# Altium schematic symbol library Pilot.SchLib: 72 symbols (part 2 of 3)
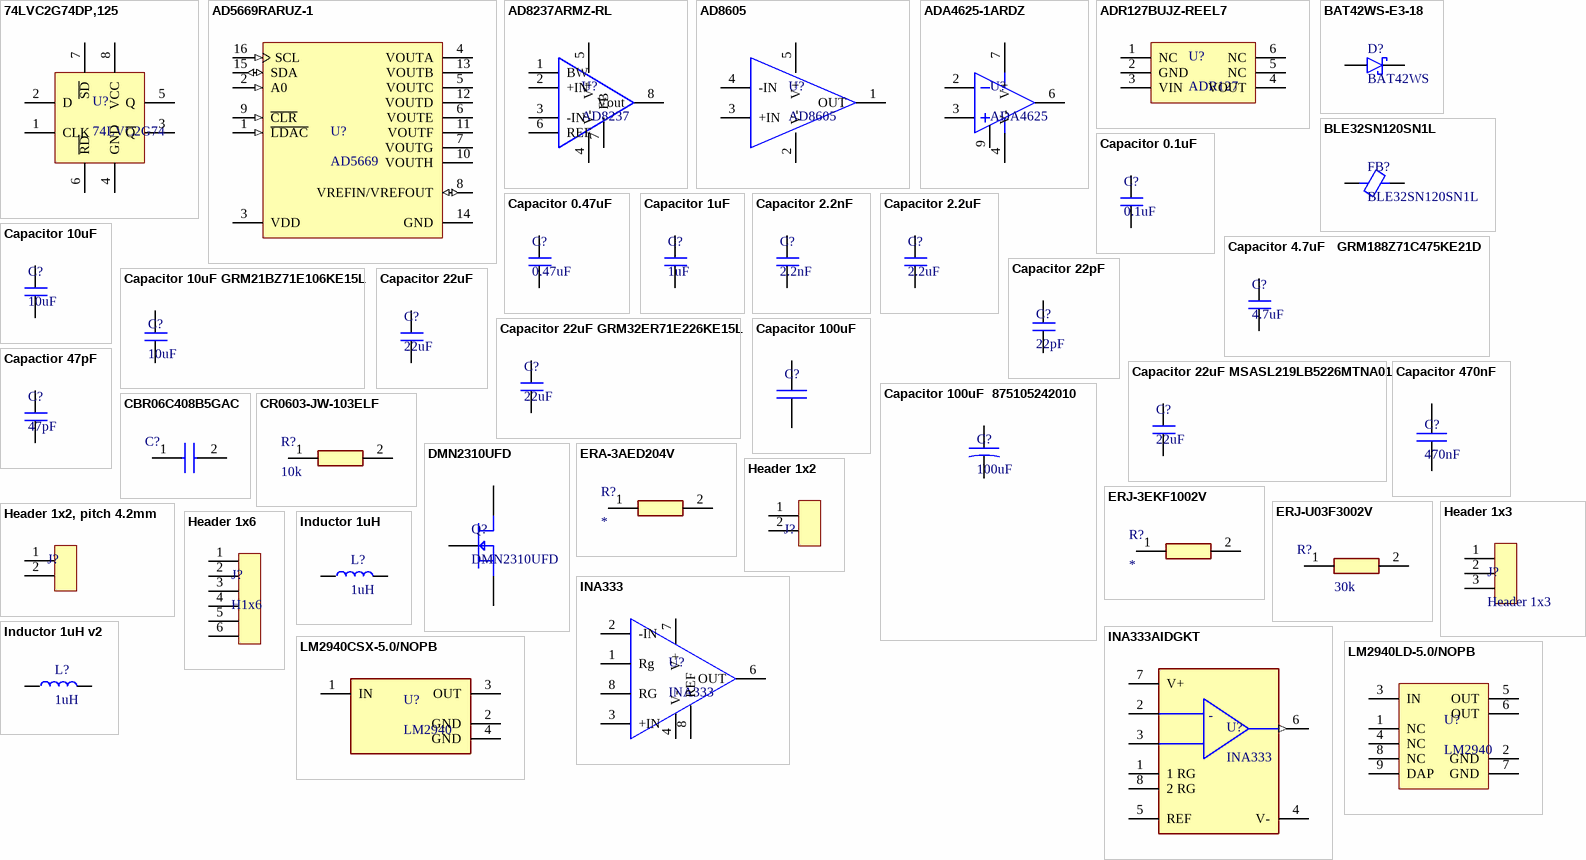
[diagram p2: symbols 74LVC2G74DP,125 to LM2940LD-5.0/NOPB]

## Header 1x6
designator J?, comment H1x6
KK 254 Wire-to-Board Header, Vertical, with Friction Lock, 6 Circuits, Tin (Sn) Plating; Manufacturer: Molex; Manufacturer Lifecycle Status: ACTIVE; Contact Resistance: 20mΩ; Current Rating: 4A; Dielectric Material: Polyamide; Gender: Male; Glow Wire Compliant: Non-compliant; Hole Diameter: 1.02mm; Insulation Resistance: 5GΩ; Max Voltage Rating (AC): 250V; Number of Circuits: 5; Number of Contacts: 6; Operating Force: 1.946N; Pitch: 2.54mm; Plating Thickness: 5.08µm; Voltage Rating: 500V; Supplier: Mouser; Supplier Part Number: 538-22-23-2061; Manufacturer Part Number: 22-27-2061; RoHS: Compliant; Category: Headers and Wire Housings; Stock: 25058; Pricing: 1=0.46, 10=0.374, 50=0.372, 100=0.344, 1000=0.291, 10000=0.262 (USD); China RoHS: Compliant; Color: White; Contact Gender: Male; Contact Material: Brass; Contact Plating: Tin; Country of Origin: TH; Depth: 5.8mm; Flammability Rating: UL94 V-0; Halogen Free: Low Halogen; Height: 12.05mm; Housing Material: Nylon; Lead Free: Lead Free; Lead Pitch: 2.54mm; Length: 15.24mm; Lifecycle Status: Production; Material: Nylon; Max Current Rating: 4A; Max Operating Temperature: 105°C; Min Operating Temperature: -40°C; Mounting Technology: Through Hole; Pins: 6; Number of Positions: 6; Number of Rows: 1; Orientation: Vertical; Packaging: Bulk; Plating: Tin; Radiation Hardening: No; REACH SVHC: Yes; Schedule B: 8536694040|8536694040|8536694040|8536694040|8536694040|8536694040|8536694040|8536694040|8536694040|8536694040|8536694040|8536694040|8536694040|8536694040|8536694040|8536694040|8536694040|8536694040|8536694040|8536694040|8536694040|8536694040|8536694040|85; Terminal Pitch: 2.54mm; Termination: Solder; Voltage Rating (AC): 250V; Voltage Rating (DC): 250V; Working Voltage: 250V; ComponentLink1URL: https://datasheet.octopart.com:443/22-27-2061-Molex-datasheet-81843831.pdf?src-supplier=Sager+Electronics; ComponentLink1Description: https://datasheet.octopart.com:443/22-27-2061-Molex-datasheet-81843831.pdf?src-supplier=Sager+Electronics; ComponentLink2URL: https://datasheet.octopart.com:443/22-27-2061-Molex-datasheet-12518272.pdf?src-supplier=Molex; ComponentLink2Description: https://datasheet.octopart.com:443/22-27-2061-Molex-datasheet-12518272.pdf?src-supplier=Molex; ComponentLink3URL: https://sigma.octopart.com:443/10979409/technical_drawing/Molex-22-27-2061.pdf?src-supplier=Molex; ComponentLink3Description: https://sigma.octopart.com:443/10979409/technical_drawing/Molex-22-27-2061.pdf?src-supplier=Molex; ComponentLink4URL: https://datasheet.octopart.com:443/022272061-Molex-datasheet-5315839.pdf?src-supplier=element14+APAC; ComponentLink4Description: https://datasheet.octopart.com:443/022272061-Molex-datasheet-5315839.pdf?src-supplier=element14+APAC; ComponentLink5URL: https://datasheet.octopart.com:443/22-27-2061-Molex-datasheet-10210293.pdf?src-supplier=element14+APAC; ComponentLink5Description: https://datasheet.octopart.com:443/22-27-2061-Molex-datasheet-10210293.pdf?src-supplier=element14+APAC; ComponentLink6URL: https://datasheet.octopart.com:443/22-27-2061.-Molex-datasheet-77557766.pdf?src-supplier=element14+APAC; ComponentLink6Description: https://datasheet.octopart.com:443/22-27-2061.-Molex-datasheet-77557766.pdf?src-supplier=element14+APAC; ComponentLink7URL: https://datasheet.octopart.com:443/22-27-2061.-Molex-datasheet-66635068.pdf?src-supplier=element14+APAC; ComponentLink7Description: https://datasheet.octopart.com:443/22-27-2061.-Molex-datasheet-66635068.pdf?src-supplier=element14+APAC; ComponentLink8URL: https://datasheet.octopart.com:443/22-27-2061-Molex-datasheet-154747150.pdf?src-supplier=Master+Electronics; ComponentLink8Description: https://datasheet.octopart.com:443/22-27-2061-Molex-datasheet-154747150.pdf?src-supplier=Master+Electronics; ComponentLink9URL: https://datasheet.octopart.com:443/22-27-2061-Molex-datasheet-101581851.pdf?src-supplier=Farnell; ComponentLink9Description: https://datasheet.octopart.com:443/22-27-2061-Molex-datasheet-101581851.pdf?src-supplier=Farnell; ComponentLink10URL: https://datasheet.octopart.com:443/22-27-2061-Molex-datasheet-21772754.pdf?src-supplier=Farnell; ComponentLink10Description: https://datasheet.octopart.com:443/22-27-2061-Molex-datasheet-21772754.pdf?src-supplier=Farnell; ComponentLink11URL: https://datasheet.octopart.com:443/22-27-2061-Molex-datasheet-604178.pdf?src-supplier=Farnell; ComponentLink11Description: https://datasheet.octopart.com:443/22-27-2061-Molex-datasheet-604178.pdf?src-supplier=Farnell; ComponentLink12URL: https://datasheet.octopart.com:443/22-27-2061-Molex-datasheet-506551.pdf?src-supplier=element14; ComponentLink12Description: https://datasheet.octopart.com:443/22-27-2061-Molex-datasheet-506551.pdf?src-supplier=element14; ComponentLink13URL: https://datasheet.octopart.com:443/22-27-2061-Molex-datasheet-140181062.pdf?src-supplier=RS+(Formerly+Allied+Electronics); ComponentLink13Description: https://datasheet.octopart.com:443/22-27-2061-Molex-datasheet-140181062.pdf?src-supplier=RS+(Formerly+Allied+Electronics); ComponentLink14URL: https://datasheet.octopart.com:443/22-27-2061-Molex-datasheet-120145355.pdf?src-supplier=RS+(Formerly+Allied+Electronics); ComponentLink14Description: https://datasheet.octopart.com:443/22-27-2061-Molex-datasheet-120145355.pdf?src-supplier=RS+(Formerly+Allied+Electronics); ComponentLink15URL: https://datasheet.octopart.com:443/22-27-2061-Molex-datasheet-62103482.pdf?src-supplier=Electro+Sonic; ComponentLink15Description: https://datasheet.octopart.com:443/22-27-2061-Molex-datasheet-62103482.pdf?src-supplier=Electro+Sonic; ComponentLink16URL: https://datasheet.octopart.com:443/22-27-2061-Molex-datasheet-37168871.pdf?src-supplier=Electro+Sonic; ComponentLink16Description: https://datasheet.octopart.com:443/22-27-2061-Molex-datasheet-37168871.pdf?src-supplier=Electro+Sonic; ComponentLink17URL: https://datasheet.octopart.com:443/22-27-2061-Molex-datasheet-23709053.pdf?src-supplier=Electro+Sonic; ComponentLink17Description: https://datasheet.octopart.com:443/22-27-2061-Molex-datasheet-23709053.pdf?src-supplier=Electro+Sonic; ComponentLink18URL: https://datasheet.octopart.com:443/22272061-Molex-datasheet-137316104.pdf?src-supplier=Future+Electronics; ComponentLink18Description: https://datasheet.octopart.com:443/22272061-Molex-datasheet-137316104.pdf?src-supplier=Future+Electronics; ComponentLink19URL: https://datasheet.octopart.com:443/22-27-2061-Molex-datasheet-34222975.pdf?src-supplier=Newark; ComponentLink19Description: https://datasheet.octopart.com:443/22-27-2061-Molex-datasheet-34222975.pdf?src-supplier=Newark; ComponentLink20URL: https://datasheet.octopart.com:443/22-27-2061-Molex-datasheet-33002333.pdf?src-supplier=Newark; ComponentLink20Description: https://datasheet.octopart.com:443/22-27-2061-Molex-datasheet-33002333.pdf?src-supplier=Newark; ComponentLink21URL: https://datasheet.octopart.com:443/22-27-2061-Molex-datasheet-21206944.pdf?src-supplier=Newark; ComponentLink21Description: https://datasheet.octopart.com:443/22-27-2061-Molex-datasheet-21206944.pdf?src-supplier=Newark; ComponentLink22URL: https://datasheet.octopart.com:443/22-27-2061-Molex-datasheet-151821780.pdf?src-supplier=Toby+Electronics; ComponentLink22Description: https://datasheet.octopart.com:443/22-27-2061-Molex-datasheet-151821780.pdf?src-supplier=Toby+Electronics; ComponentLink23URL: https://datasheet.octopart.com:443/22-27-2061-Molex-datasheet-135930.pdf?src-supplier=DigiKey; ComponentLink23Description: https://datasheet.octopart.com:443/22-27-2061-Molex-datasheet-135930.pdf?src-supplier=DigiKey; ComponentLink24URL: https://datasheet.octopart.com:443/22-27-2061-Molex-datasheet-7084865.pdf?src-supplier=Jameco; ComponentLink24Description: https://datasheet.octopart.com:443/22-27-2061-Molex-datasheet-7084865.pdf?src-supplier=Jameco; ComponentLink25URL: https://datasheet.octopart.com:443/22-27-2061-Molex-datasheet-17586671.pdf?src-supplier=TME; ComponentLink25Description: https://datasheet.octopart.com:443/22-27-2061-Molex-datasheet-17586671.pdf?src-supplier=TME; ComponentLink26URL: http://sigma.octopart.com:80/16297739/rohs_statement/Molex-22-27-2061.pdf?src-supplier=Compliance+Statements; ComponentLink26Description: http://sigma.octopart.com:80/16297739/rohs_statement/Molex-22-27-2061.pdf?src-supplier=Compliance+Statements; ComponentLink27URL: http://sigma.octopart.com:80/conflict_mineral_statement/Molex-company-72.pdf?src-supplier=Compliance+Statements; ComponentLink27Description: http://sigma.octopart.com:80/conflict_mineral_statement/Molex-company-72.pdf?src-supplier=Compliance+Statements; ComponentLink28URL: http://sigma.octopart.com:80/reach_statement/Molex-company-74.pdf?src-supplier=Compliance+Statements; ComponentLink28Description: http://sigma.octopart.com:80/reach_statement/Molex-company-74.pdf?src-supplier=Compliance+Statements; ComponentLink29URL: http://sigma.octopart.com:80/rohs_statement/Molex-company-73.pdf?src-supplier=Compliance+Statements; ComponentLink29Description: http://sigma.octopart.com:80/rohs_statement/Molex-company-73.pdf?src-supplier=Compliance+Statements; Supplier 1: Mouser; Supplier Part Number 1: 538-22-27-2061
footprint HEADER 1X6
pins: 1, 2, 3, 4, 5, 6

## INA333
designator U?
pins: 1 Rg, 2 -IN, 3 +IN, 4 V-, 6 OUT, 7 V+, 8 REF, 8 RG

## INA333AIDGKT
designator U?, comment INA333
IC INST AMP 1 CIRCUIT 8VSSOP Instrumentation Amplifier 1 Circuit Rail-to-Rail 8-VSSOP; Manufacturer: Texas Instruments; Manufacturer Part Number: INA333AIDGKT; Manufacturer Lifecycle Status: ACTIVE; -3db Bandwidth: 150kHz; Common Mode Rejection Ratio: 100dB; Input Bias Current: 70pA; Input Offset Voltage (Vos): 25µV; Max Dual Supply Voltage: 2.75V; Max Junction Temperature (Tj): 150°C; Max Supply Current: 75µA; Max Supply Voltage: 5.5V; Min Dual Supply Voltage: 900mV; Min Supply Voltage: 1.8V; Nominal Supply Current: 50µA; Number of Amplifiers: 1; Number of Elements: 3; Output Current per Channel: 40mA; Power Supply Rejection Ratio (PSRR): 120dB; Value: 100GΩ; Slew Rate: 0.16V/µs; Voltage Gain: 60dB; Supplier: Mouser; Supplier Part Number: 595-INA333AIDGKT; RoHS: Compliant; Category: Amplifiers - Op Amps, Buffer, Instrumentation; Stock: 4360; Ambient Temperature Range High: 125°C; Bandwidth: 150kHz; Case/Package: VSSOP; Gain Bandwidth Product: 150kHz; Height: 0m; Lead Free: Lead Free; Length: 3mm; Lifecycle Status: Production; Max Operating Temperature: 125°C; Min Operating Temperature: -40°C; Number of Channels: 1; Number of Circuits: 1; Pins: 8; Operating Supply Current: 50µA; Quiescent Current: 50µA; Radiation Hardening: No; REACH SVHC: No; Schedule B: 8542330000, 8542330000|8542330000|8542330000|8542330000|8542330000|8542330000|8542330000|8542330000|8542330000|8542330000|8542330000|8542330000|8542330000|8542330000|8542330000|8542330000|8542330000|8542330000|8542330000|8542330000|8542330000|8542330000|8542330000|85; Thickness: 970µm; Weight: 26.506804mg; Width: 3mm; ComponentLink1URL: https://sigma.octopart.com:443/178522223/technical_drawing/Texas-Instruments-INA333AIDGKT.pdf?src-supplier=Texas+Instruments; ComponentLink1Description: https://sigma.octopart.com:443/178522223/technical_drawing/Texas-Instruments-INA333AIDGKT.pdf?src-supplier=Texas+Instruments; ComponentLink2URL: https://octopart.com:443/opatz8j6/c1?t=V-fXB-rW8jv6fZO42Xyeii-VbSduNs_sypYrbIAapb8q-gef3LibjYtXIxlRxKElxMoNQnTuiMj8fJDwQC7p1wsXU82Nf5KzMMEUlZU6NM7WLFRVjXH6z6_5ibc0BewWLNUAVqlUzV9zOoWoa8sKVJurnvTC26LvhOb60JTxJWGz_lMtxfG2gwWfzn0OBkEnAwIBI0ugQCUIg70evWR0bIK6L-5NECTMU-gf3l-vwrJZ1XbBUM96S_Td2M5M8hc4UVOubiMbDDYiWeG3BE1nzII6D67RVcdz5ib3izF7gT1Fzk9wewYzsqh4K7kTAYR21MEJOv9DjSf59eS-SZmh4NGmW3yyPbkOF_cwYzkKBAViD-S_Foru0ymOmvmM4NJ_caOk&src-supplier=Texas+Instruments; ComponentLink2Description: https://octopart.com:443/opatz8j6/c1?t=V-fXB-rW8jv6fZO42Xyeii-VbSduNs_sypYrbIAapb8q-gef3LibjYtXIxlRxKElxMoNQnTuiMj8fJDwQC7p1wsXU82Nf5KzMMEUlZU6NM7WLFRVjXH6z6_5ibc0BewWLNUAVqlUzV9zOoWoa8sKVJurnvTC26LvhOb60JTxJWGz_lMtxfG2gwWfzn0OBkEnAwIBI0ugQCUIg70evWR0bIK6L-5NECTMU-gf3l-vwrJZ1XbBUM96S_Td2M5M8hc4UVOubiMbDDYiWeG3BE1nzII6D67RVcdz5ib3izF7gT1Fzk9wewYzsqh4K7kTAYR21MEJOv9DjSf59eS-SZmh4NGmW3yyPbkOF_cwYzkKBAViD-S_Foru0ymOmvmM4NJ_caOk&src-supplier=Texas+Instruments; ComponentLink3URL: https://datasheet.octopart.com:443/INA333AIDGKT-Texas-Instruments-datasheet-10254260.pdf?src-supplier=Texas+Instruments; ComponentLink3Description: https://datasheet.octopart.com:443/INA333AIDGKT-Texas-Instruments-datasheet-10254260.pdf?src-supplier=Texas+Instruments; ComponentLink4URL: https://sigma.octopart.com:443/49250154/technical_drawing/Texas-Instruments-INA333AIDGKT.pdf?src-supplier=Texas+Instruments; ComponentLink4Description: https://sigma.octopart.com:443/49250154/technical_drawing/Texas-Instruments-INA333AIDGKT.pdf?src-supplier=Texas+Instruments; ComponentLink5URL: https://datasheet.octopart.com:443/INA333AIDGKT-Texas-Instruments-datasheet-33010170.pdf?src-supplier=Newark; ComponentLink5Description: https://datasheet.octopart.com:443/INA333AIDGKT-Texas-Instruments-datasheet-33010170.pdf?src-supplier=Newark; ComponentLink6URL: https://datasheet.octopart.com:443/INA333AIDGKT-Texas-Instruments-datasheet-21221252.pdf?src-supplier=Newark; ComponentLink6Description: https://datasheet.octopart.com:443/INA333AIDGKT-Texas-Instruments-datasheet-21221252.pdf?src-supplier=Newark; ComponentLink7URL: https://datasheet.octopart.com:443/INA333AIDGKT-Texas-Instruments-datasheet-102489501.pdf?src-supplier=Upverter; ComponentLink7Description: https://datasheet.octopart.com:443/INA333AIDGKT-Texas-Instruments-datasheet-102489501.pdf?src-supplier=Upverter; ComponentLink8URL: https://datasheet.octopart.com:443/INA333AIDGKT-Texas-Instruments-datasheet-13550866.pdf?src-supplier=Upverter; ComponentLink8Description: https://datasheet.octopart.com:443/INA333AIDGKT-Texas-Instruments-datasheet-13550866.pdf?src-supplier=Upverter; ComponentLink9URL: https://datasheet.octopart.com:443/INA333AIDGKT-Texas-Instruments-datasheet-14137325.pdf?src-supplier=iiiC; ComponentLink9Description: https://datasheet.octopart.com:443/INA333AIDGKT-Texas-Instruments-datasheet-14137325.pdf?src-supplier=iiiC; ComponentLink10URL: https://datasheet.octopart.com:443/INA333AIDGKT-Texas-Instruments-datasheet-11537799.pdf?src-supplier=Farnell; ComponentLink10Description: https://datasheet.octopart.com:443/INA333AIDGKT-Texas-Instruments-datasheet-11537799.pdf?src-supplier=Farnell; ComponentLink11URL: https://datasheet.octopart.com:443/INA333AIDGKT-Texas-Instruments-datasheet-10888318.pdf?src-supplier=Farnell; ComponentLink11Description: https://datasheet.octopart.com:443/INA333AIDGKT-Texas-Instruments-datasheet-10888318.pdf?src-supplier=Farnell; ComponentLink12URL: https://datasheet.octopart.com:443/INA333AIDGKT-Texas-Instruments-datasheet-5396508.pdf?src-supplier=Farnell; ComponentLink12Description: https://datasheet.octopart.com:443/INA333AIDGKT-Texas-Instruments-datasheet-5396508.pdf?src-supplier=Farnell; ComponentLink13URL: http://sigma.octopart.com:80/reach_statement/Texas-Instruments-company-64.pdf?src-supplier=Compliance+Statements; ComponentLink13Description: http://sigma.octopart.com:80/reach_statement/Texas-Instruments-company-64.pdf?src-supplier=Compliance+Statements; ComponentLink14URL: http://sigma.octopart.com:80/conflict_mineral_statement/Texas-Instruments-company-63.pdf?src-supplier=Compliance+Statements; ComponentLink14Description: http://sigma.octopart.com:80/conflict_mineral_statement/Texas-Instruments-company-63.pdf?src-supplier=Compliance+Statements; Supplier 1: Mouser; Supplier Part Number 1: 595-INA333AIDGKT
footprint VSSOP-8
pins: 1 1 RG, 2 VIN-, 3 VIN+, 4 V- (power), 5 REF, 6 VOUT (out), 7 V+ (power), 8 2 RG
text: -

## Inductor 1uH
designator L?, comment 1uH
74438356010 Fixed Ind 1UH 7.2A 15 Mohm SMD; Manufacturer: Wurth Electronics; Core Material: Metal,Composite; Saturation Current: 9A; Shielding: Shielded; DC Resistance (DCR): 15mR; Self Resonant Frequency: 55MHz; Test Frequency: 100kHz; Tolerance: 20%; Supplier: Mouser; Supplier Part Number: 710-74438356010; Manufacturer Part Number: 74438356010; RoHS: Yes; Category: Fixed Inductors; Stock: 7017; Pricing: 1=1.94, 10=1.9, 50=1.82, 100=1.68, 1000=1.12, 10000=1.12 (USD); Mounting Technology: Surface Mount; Case/Package: SMD/SMT; Pins: 2; Min Operating Temperature: -40°C; Max Operating Temperature: 125°C; Packaging: Cut Tape; Value: 1uH; Current Rating: 7.2A; RMS Current (Irms): 7.2A; Inductance Tolerance: 20%; Series: WE-MAPI; Length: 0.161inch; Width: 0.161inch; Height - Seated (Max): 0.083inch; RoHS Compliant: Yes; Reach SVHC Compliant: Unknown; ComponentLink1URL: http://www.farnell.com/datasheets/2039949.pdf?src-supplier=Farnell; ComponentLink1Description: http://www.farnell.com/datasheets/2039949.pdf?src-supplier=Farnell; ComponentLink2URL: https://www.mouser.com/ds/2/445/74438356010-777437.pdf?src-supplier=Mouser; ComponentLink2Description: https://www.mouser.com/ds/2/445/74438356010-777437.pdf?src-supplier=Mouser; ComponentLink3URL: http://www.farnell.com/datasheets/2039949.pdf?src-supplier=Element14; ComponentLink3Description: http://www.farnell.com/datasheets/2039949.pdf?src-supplier=Element14; ComponentLink4URL: https://katalog.we-online.de/pbs/datasheet/74438356010.pdf?src-supplier=Digikey; ComponentLink4Description: https://katalog.we-online.de/pbs/datasheet/74438356010.pdf?src-supplier=Digikey; ComponentLink5URL: http://katalog.we-online.de/pbs/datasheet/74438356010.pdf?src-supplier=Digikey; ComponentLink5Description: http://katalog.we-online.de/pbs/datasheet/74438356010.pdf?src-supplier=Digikey; ComponentLink6URL: http://www.farnell.com/datasheets/2039949.pdf?src-supplier=Newark; ComponentLink6Description: http://www.farnell.com/datasheets/2039949.pdf?src-supplier=Newark; Supplier 1: Mouser; Supplier Part Number 1: 710-74438356010
footprint IND4020 (Chip Inductor, 2-Leads, Body 4.10x4.10mm, IPC Low Density)
pins: 1, 2

## Inductor 1uH v2
designator L?, comment 1uH
Power Inductor, Aec-Q200, 1Uh, 3.9A Rohs Compliant: Yes |Wurth Elektronik 74404052010; DC Resistance (DCR): 19.8mΩ; Value: 1µH; Saturation Current: 5.5A; Self Resonant Frequency: 145MHz; Shielding: Shielded; Test Frequency: 100kHz; Tolerance: 30%; Supplier: Mouser; Supplier Part Number: 710-74404052010; Manufacturer: Wurth Elektronik; Manufacturer Part Number: 74404052010; RoHS: Compliant; Category: Fixed Inductors; Stock: 975; Pricing: 1=0.77, 10=0.713, 50=0.708, 100=0.647, 1000=0.631, 10000=0.572 (USD); Ambient Temperature Range High: 85°C; Ambient Temperature Range Low: -40°C; Case/Package: Nonstandard; Composition: Wirewound; Current Rating: 3.9A; Height: 2mm; Height - Seated (Max): 2.0066mm; Length: 5mm; Max Operating Temperature: 125°C; Min Operating Temperature: -40°C; Mounting Technology: Surface Mount; Packaging: Tape & Reel (TR); Width: 5mm; ComponentLink1URL: https://datasheet.octopart.com:443/74404052010-Wurth-Elektronik-datasheet-166323310.pdf?src-supplier=Newark; ComponentLink1Description: https://datasheet.octopart.com:443/74404052010-Wurth-Elektronik-datasheet-166323310.pdf?src-supplier=Newark
footprint 5x5mm
pins: 1, 2

## LM2940CSX-5.0/NOPB
designator U?, comment LM2940
Low Drop Out (LDO) Regulator Position 5 Volt 1A 4-Pin(3+Tab) TO-263; Manufacturer: TI National Semiconductor; Manufacturer Part Number: LM2940CSX-5.0/NOPB; Supplier: Mouser; Supplier Part Number: 926-LM2940CSX5.0NOPB; RoHS: Yes; Category: Voltage Regulators - Linear; Stock: 1487; ComponentLink1URL: https://datasheet.ciiva.com/15111/getdatasheetpartid-82376-15111464.pdf?src-supplier=Verical; ComponentLink1Description: https://datasheet.ciiva.com/15111/getdatasheetpartid-82376-15111464.pdf?src-supplier=Verical; ComponentLink2URL: https://datasheet.ciiva.com/34302/1262619-34302128.pdf?src-supplier=Jameco; ComponentLink2Description: https://datasheet.ciiva.com/34302/1262619-34302128.pdf?src-supplier=Jameco; ComponentLink3URL: https://datasheet.ciiva.com/8042/1520147-8042329.pdf?src-supplier=Element14; ComponentLink3Description: https://datasheet.ciiva.com/8042/1520147-8042329.pdf?src-supplier=Element14
footprint D2PAK-3 (TO-263-3)
pins: 1 IN (power), 2 GND (power), 3 OUT (power), 4 GND (power)

## LM2940LD-5.0/NOPB
designator U?, comment LM2940
1-A, 26-V, high-PSRR, low-dropout voltage regulator 8-WSON -40 to 125; Manufacturer: TI National Semiconductor; Manufacturer Part Number: LM2940LD-5.0/NOPB; Supplier: Mouser; Supplier Part Number: 926-LM2940LD50NOPB; RoHS: Yes; Category: Voltage Regulators - Linear; Stock: 1797; ComponentLink1URL: https://datasheet.ciiva.com/3223/lm2940c-3223621.pdf?src-supplier=Avnet; ComponentLink1Description: https://datasheet.ciiva.com/3223/lm2940c-3223621.pdf?src-supplier=Avnet; ComponentLink2URL: https://datasheet.ciiva.com/6589/lm2940-n-6589582.pdf?src-supplier=Digikey; ComponentLink2Description: https://datasheet.ciiva.com/6589/lm2940-n-6589582.pdf?src-supplier=Digikey; ComponentLink3URL: https://datasheet.ciiva.com/6589/lm2940-n-6589583.pdf?src-supplier=Digikey; ComponentLink3Description: https://datasheet.ciiva.com/6589/lm2940-n-6589583.pdf?src-supplier=Digikey
footprint WSON-8
pins: 1 NC, 2 GND (power), 3 IN (power), 4 NC, 5 OUT (power), 6 OUT (power), 7 GND (power), 8 NC, 9 DAP (power)

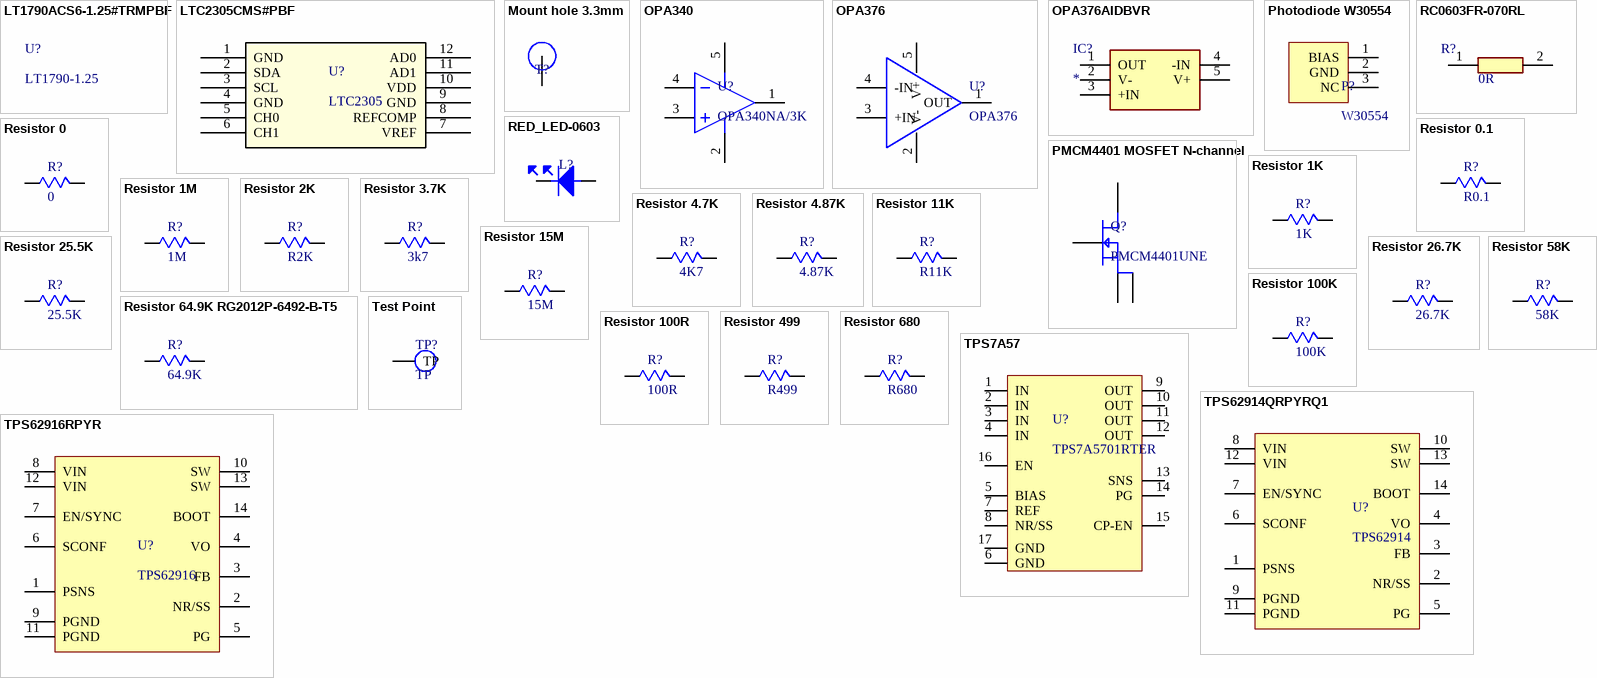
[diagram p1: symbols LT1790ACS6-1.25#TRMPBF to TPS62916RPYR]

## LT1790ACS6-1.25#TRMPBF
designator U?, comment LT1790-1.25
LT1790 - Micropower SOT-23 Low Dropout Reference Family; Manufacturer: Analog Devices / Linear Technology; Manufacturer Part Number: LT1790ACS6-1.25#TRMPBF; Supplier: Mouser; Supplier Part Number: 584-1790ACS61.25TMPF; RoHS: Yes; Category: Voltage References; Stock: 1065; ComponentLink1URL: https://datasheet.ciiva.com/5781/1599502-5781690.pdf?src-supplier=Farnell; ComponentLink1Description: https://datasheet.ciiva.com/5781/1599502-5781690.pdf?src-supplier=Farnell; ComponentLink2URL: https://datasheet.ciiva.com/6594/2433-6594157.pdf?src-supplier=Digikey; ComponentLink2Description: https://datasheet.ciiva.com/6594/2433-6594157.pdf?src-supplier=Digikey; ComponentLink3URL: https://datasheet.ciiva.com/6594/2433-6594159.pdf?src-supplier=Digikey; ComponentLink3Description: https://datasheet.ciiva.com/6594/2433-6594159.pdf?src-supplier=Digikey; ComponentLink4URL: https://datasheet.ciiva.com/8027/1599502-8027691.pdf?src-supplier=Element14; ComponentLink4Description: https://datasheet.ciiva.com/8027/1599502-8027691.pdf?src-supplier=Element14; ComponentLink5URL: https://datasheet.ciiva.com/1173/1599502-1173899.pdf?src-supplier=Element14; ComponentLink5Description: https://datasheet.ciiva.com/1173/1599502-1173899.pdf?src-supplier=Element14; ComponentLink6URL: https://datasheet.ciiva.com/48696/001256455-da-01-en-ic-v-lt1790acs6-1-25-trmpbf-sot-23-6-ltc-48696453.pdf?src-supplier=Conrad; ComponentLink6Description: https://datasheet.ciiva.com/48696/001256455-da-01-en-ic-v-lt1790acs6-1-25-trmpbf-sot-23-6-ltc-48696453.pdf?src-supplier=Conrad

## LTC2305CMS#PBF
designator U?, comment LTC2305
2-Channel Single ADC SAR 14ksps 12-bit Serial Automotive 12-Pin MSOP Tube; Manufacturer: Analog Devices / Linear Technology; Manufacturer Part Number: LTC2305CMS#PBF; Supplier: Mouser; Supplier Part Number: 584-LTC2305CMS#PBF; RoHS: Yes; Category: Analog to Digital Converters (ADCs); Stock: 78; ComponentLink1URL: https://datasheet.ciiva.com/4031/46671058s8217761n7433-4031713.pdf?src-supplier=Arrow+Electronics; ComponentLink1Description: https://datasheet.ciiva.com/4031/46671058s8217761n7433-4031713.pdf?src-supplier=Arrow+Electronics; ComponentLink2URL: https://datasheet.ciiva.com/22635/1599670-22635120.pdf?src-supplier=Farnell; ComponentLink2Description: https://datasheet.ciiva.com/22635/1599670-22635120.pdf?src-supplier=Farnell; ComponentLink3URL: https://datasheet.ciiva.com/5784/1599670-5784538.pdf?src-supplier=Farnell; ComponentLink3Description: https://datasheet.ciiva.com/5784/1599670-5784538.pdf?src-supplier=Farnell; ComponentLink4URL: https://datasheet.ciiva.com/6662/26767-6662076.pdf?src-supplier=Digikey; ComponentLink4Description: https://datasheet.ciiva.com/6662/26767-6662076.pdf?src-supplier=Digikey
footprint MSOP12 (MSOP, 12-Leads, Body 4.04x3.00mm, Pitch 0.65mm, IPC Medium Density)
pins: 1 GND, 2 SDA, 3 SCL, 4 GND (power), 5 CH0, 6 CH1, 7 VREF, 8 REFCOMP, 9 GND (power), 10 VDD (power), 11 AD1, 12 AD0

## Mount hole 3.3mm
designator T?, comment TP  (value not drawn)
footprint Hole 3.3mm
pins: 1

## OPA340
designator U?, comment OPA340NA/3K
Operational Amplifier Single General Purpose Rail to Rail Input 5.5V 5-Pin SOT-23 Tape and Reel; Manufacturer: Texas Instruments; Supplier: Mouser; Supplier Part Number: 595-OPA340NA/3K; Manufacturer Part Number: OPA340NA/3K; RoHS: Yes; Category: Amplifiers - Op Amps, Buffer, Instrumentation; Stock: 33077; Length: 2.9mm; Width: 1.6mm; Height: 1.45mm; Thickness: 1.2mm; Lead Free: 5697LeadFree; ComponentLink1URL: https://datasheet.ciiva.com/4755/sbos073b-93957-4755984.pdf?src-supplier=Mouser; ComponentLink1Description: https://datasheet.ciiva.com/4755/sbos073b-93957-4755984.pdf?src-supplier=Mouser; ComponentLink2URL: https://datasheet.ciiva.com/27052/1488520-27052284.pdf?src-supplier=Jameco; ComponentLink2Description: https://datasheet.ciiva.com/27052/1488520-27052284.pdf?src-supplier=Jameco; ComponentLink3URL: https://datasheet.ciiva.com/49118/1861007-49118271.pdf?src-supplier=Element14; ComponentLink3Description: https://datasheet.ciiva.com/49118/1861007-49118271.pdf?src-supplier=Element14; ComponentLink4URL: https://datasheet.ciiva.com/1813/opa2340-1813818.pdf?src-supplier=Digikey; ComponentLink4Description: https://datasheet.ciiva.com/1813/opa2340-1813818.pdf?src-supplier=Digikey; ComponentLink5URL: https://datasheet.ciiva.com/1813/opa2340-1813819.pdf?src-supplier=Digikey; ComponentLink5Description: https://datasheet.ciiva.com/1813/opa2340-1813819.pdf?src-supplier=Digikey; ComponentLink6URL: https://datasheet.ciiva.com/1813/opa2340-1813820.pdf?src-supplier=Digikey; ComponentLink6Description: https://datasheet.ciiva.com/1813/opa2340-1813820.pdf?src-supplier=Digikey; ComponentLink7URL: https://datasheet.ciiva.com/2974/sbos073b-2974003.pdf?src-supplier=Avnet; ComponentLink7Description: https://datasheet.ciiva.com/2974/sbos073b-2974003.pdf?src-supplier=Avnet; Supplier 1: Mouser; Supplier Part Number 1: 595-OPA340NA/3K
footprint SOT-23
pins: 1 OUT, 2 V- (power), 3 IN+, 4 IN-, 5 V+ (power)

## OPA376
designator U?
Automotive Precision, Low Noise, Low Iq Operational Amplifier 5-SOT-23 -40 to 125; Manufacturer: Texas Instruments; Manufacturer Part Number: OPA376AQDBVRQ1; Supplier: Mouser; Supplier Part Number: 595-OPA376AQDBVRQ1; RoHS: Yes; Category: Amplifiers - Op Amps, Buffer, Instrumentation; Stock: 771; Pricing: 1=2.02, 10=1.49, 50=1.36, 100=1.22, 1000=1.07, 10000=0.981 (USD); Length: 2.9mm; Width: 1.6mm; Height: 1.45mm; Thickness: 1.2mm; Lead Free: 5697LeadFree; ComponentLink1URL: https://datasheet.ciiva.com/14456/sbos549-14456362.pdf?src-supplier=Avnet; ComponentLink1Description: https://datasheet.ciiva.com/14456/sbos549-14456362.pdf?src-supplier=Avnet; ComponentLink2URL: https://datasheet.ciiva.com/1813/opa376-q1-1813824.pdf?src-supplier=Digikey; ComponentLink2Description: https://datasheet.ciiva.com/1813/opa376-q1-1813824.pdf?src-supplier=Digikey
footprint SOT-23-5 (SOT23, 5-Leads, Body 2.00x2.10mm, Pitch 0.65mm, IPC Medium Density)
pins: 1 OUT, 2 V-, 3 +IN, 4 -IN, 5 V+

## OPA376AIDBVR
designator IC?
Integrated Circuit; Manufacturer_Name: Texas Instruments; Manufacturer_Part_Number: OPA376AIDBVR; Datasheet Link: http://www.ti.com/lit/gpn/OPA376; Height: 1.45mm; Mouser Part Number: 595-OPA376AIDBVR; Mouser Price/Stock: https://www.mouser.co.uk/ProductDetail/Texas-Instruments/OPA376AIDBVR?qs=xL7PkI2RoJ57GVtJklM7uw%3D%3D; Arrow Part Number: OPA376AIDBVR; Arrow Price/Stock: https://www.arrow.com/en/products/opa376aidbvr/texas-instruments?utm_currency=USD&region=nac
footprint SOT95P280X145-5N
pins: 1 OUT, 2 V-, 3 +IN, 4 -IN, 5 V+

## Photodiode W30554
designator P?, comment W30554
footprint Model 2
pins: 1 BIAS, 2 GND, 3 NC

## PMCM4401 MOSFET N-channel
designator Q?, comment PMCM4401UNE
Supplier: Mouser; Supplier Part Number: 771-PMCM4401UNEZ
footprint WLCSP4_ (BGA, 4-Leads, Body 0.78x0.78mmx0.35mm, Pitch 0.40mm)
pins: A1 G, A2 S, B1 D, B2 S

## RC0603FR-070RL
designator R?  value 0R  (hidden comment: *)
Resistor; Manufacturer_Name: Yageo Group; Manufacturer_Part_Number: RC0603FR-070RL; Datasheet Link: http://www.yageo.com/documents/recent/PYu-RC0603_51_RoHS_L_v5.pdf; Height: 0.55mm; Mouser Part Number: 603-RC0603FR-070RL; Mouser Price/Stock: https://www.mouser.co.uk/ProductDetail/YAGEO/RC0603FR-070RL?qs=0yPvnVz5%2FmpDQv43TwvCfw%3D%3D; Arrow Part Number: RC0603FR-070RL; Arrow Price/Stock: https://www.arrow.com/en/products/rc0603fr-070rl/yageo?region=nac
footprint RESC1608X55N (Footprint not found)
pins: 1, 2

## RED_LED-0603
designator L?, comment RED-LED  (value not drawn)
LED Low-Power Uni-Color Red 630nm 2V 2-Pin Chip 0603(1608Metric) T/R; Manufacturer: Wurth Elektronik; Manufacturer Part Number: 150060RS75000; Dominant Wavelength: 625nm; Forward Current: 100mA; Lens Style: Clear, Rectangular; Luminous Intensity: 250mcd; Max Junction Temperature (Tj): 95°C; Max Reverse Voltage (DC): 5V; Power Dissipation: 72mW; Test Current: 20mA; Viewing Angle: 140°; Supplier: Mouser; Supplier Part Number: 710-150060RS75000; RoHS: Compliant; Category: LEDs; Stock: 117752; Pricing: 1=0.16, 10=0.151, 50=0.142, 100=0.122, 1000=0.116, 10000=0.116 (USD); Case/Package: 0603; Case Code (Imperial): 0603; Case Code (Metric): 1608; Color: Red; Forward Voltage: 2V; Height: 700µm; Length: 1.6mm; Max Operating Temperature: 85°C; Min Operating Temperature: -40°C; Mounting Technology: Surface Mount; Packaging: Tape and Reel; Peak Wavelength: 630nm; REACH SVHC: Unknown; Reverse Voltage: 5V; Wavelength: 625nm; Width: 800µm; ComponentLink1URL: https://datasheet.octopart.com:443/150060RS75000-W%C3%BCrth-Elektronik-datasheet-141913886.pdf?src-supplier=Upverter; ComponentLink1Description: https://datasheet.octopart.com:443/150060RS75000-W%C3%BCrth-Elektronik-datasheet-141913886.pdf?src-supplier=Upverter; ComponentLink2URL: https://datasheet.octopart.com:443/150060RS75000-W%C3%BCrth-Elektronik-datasheet-15983787.pdf?src-supplier=Upverter; ComponentLink2Description: https://datasheet.octopart.com:443/150060RS75000-W%C3%BCrth-Elektronik-datasheet-15983787.pdf?src-supplier=Upverter; ComponentLink3URL: https://datasheet.octopart.com:443/150060RS75000-W%C3%BCrth-Elektronik-datasheet-140603451.pdf?src-supplier=Wurth+Elektronik; ComponentLink3Description: https://datasheet.octopart.com:443/150060RS75000-W%C3%BCrth-Elektronik-datasheet-140603451.pdf?src-supplier=Wurth+Elektronik; ComponentLink4URL: https://datasheet.octopart.com:443/150060RS75000-W%C3%BCrth-Elektronik-datasheet-41196438.pdf?src-supplier=Newark; ComponentLink4Description: https://datasheet.octopart.com:443/150060RS75000-W%C3%BCrth-Elektronik-datasheet-41196438.pdf?src-supplier=Newark
footprint 0603-LED
pins: 1, 2

## Resistor 0
designator R?, comment 0
Anti-Sulfurated Chip Resistor Thick Film 0603 Jumper 0Ohm Paper T/R; Manufacturer: Yageo; Manufacturer Part Number: AF0603JR-130RL; Power Rating: 100mW; Value: 0R; Temperature Coefficient: 200ppm/°C; Tolerance: 5%; Voltage Rating: 75V; Supplier: Mouser; Supplier Part Number: 603-AF0603JR-130RL; RoHS: Yes; Category: Resistors; Stock: 35953; Pricing: 1=0.1, 10=0.016, 50=0.016, 100=0.009, 1000=0.008, 10000=0.005 (USD); Case/Package: 345Case; Min Operating Temperature: -55°C; Max Operating Temperature: 155°C; Packaging: 10Packaging; Height: 550um; Supplier 1: Mouser; Supplier Part Number 1: 603-AF0603JR-130RL
footprint RES0603 (Chip Resistor, 2-Leads, Body 1.60x0.80mm, IPC Medium Density)
pins: 1, 2

## Resistor 0.1
designator R?, comment R0.1
footprint RES-Axial 0.6
pins: 1, 2

## Resistor 1K
designator R?, comment 1K
footprint RES0805 (Chip Resistor, 2-Leads, Body 2.00x1.25mm, IPC Medium Density)
pins: 1, 2

## Resistor 1M
designator R?, comment 1M
footprint RES0603 (Chip Resistor, 2-Leads, Body 1.60x0.80mm, IPC Medium Density)
pins: 1, 2

## Resistor 2K
designator R?, comment R2K
Res Thin Film 0603 2K Ohm 0.1% 1/10W ±25ppm/°C Molded SMD SMD Paper T/R; Manufacturer: Yageo; Manufacturer Part Number: RT0603BRD072KL; Value: 2kR; Power Rating: 100mW; Voltage Rating: 75V; Voltage Rating (DC): 50V; Supplier: Mouser; Supplier Part Number: 603-RT0603BRD072KL; RoHS: Yes; Category: Chip SMD Resistors; Stock: 66196; Pricing: 1=0.1, 10=0.069, 50=0.061, 100=0.057, 1000=0.052, 10000=0.035 (USD); Case/Package: 0603; Contact Plating: Tin,Matte; Case Code (Imperial): 0603; Weight: 7.1E-05oz; Case Code (Metric): 1608; Min Operating Temperature: -55°C; Max Operating Temperature: 125°C; Tolerance: 0.1%; Temperature Coefficient: 25ppm/°C; Termination: SMD/SMT; Number of Terminations: 2; Max Power Dissipation: 100mW; Features: Moisture Resistant; Package Quantity: 5000; Packaging: Tape and Reel; Series: RT; Length: 0.063inch; Width: 0.8mm; Height: 0.022inch; Lead Free: Lead Free; RoHS Compliant: Yes; ComponentLink1URL: https://datasheet.ciiva.com/8894/pyu-rt-1-to-0-05-rohs-l-4-8894812.pdf?src-supplier=Avnet; ComponentLink1Description: https://datasheet.ciiva.com/8894/pyu-rt-1-to-0-05-rohs-l-4-8894812.pdf?src-supplier=Avnet; ComponentLink2URL: https://datasheet.ciiva.com/2585/pyu-rt-1-to-0-05-rohs-l-4-2585865.pdf?src-supplier=Digikey; ComponentLink2Description: https://datasheet.ciiva.com/2585/pyu-rt-1-to-0-05-rohs-l-4-2585865.pdf?src-supplier=Digikey
footprint RES0603 (Chip Resistor, 2-Leads, Body 1.60x0.80mm, IPC Medium Density)
pins: 1, 2

## Resistor 3.7K
designator R?, comment 3k7
RN73H 0603 (1608Metric) Chip Resistor ±0.1% ±25ppm/C 3.7kOhm 0.1W 1/10W; Manufacturer: KOA Speer; Manufacturer Part Number: RN73H1JTTD3701B25; Voltage Rating: 75V; Value: 3.7kR; Power Rating: 100mW; Temperature Coefficient: 25ppm/°C; Supplier 1: Mouser; Supplier Part Number 1: 660-RN73H1JTD3701B25; Supplier: Mouser; Supplier Part Number: 660-RN73H1JTD3701B25; RoHS: Yes; Category: Chip SMD Resistors; Stock: 11820; Pricing: 1=0.21, 10=0.115, 50=0.115, 100=0.108, 1000=0.078, 10000=0.074 (USD); Case/Package: 0603; Case Code (Metric): 1608; Case Code (Imperial): 0603; Min Operating Temperature: -55°C; Max Operating Temperature: 155°C; Packaging: Tape and Reel; Tolerance: 0.1%; Termination: SMD/SMT; Voltage Rating (DC): 75V; Series: RN73H; RoHS Compliant: Yes; ComponentLink1URL: https://datasheet.ciiva.com/12738/rn73h-12738853.pdf?src-supplier=Mouser; ComponentLink1Description: https://datasheet.ciiva.com/12738/rn73h-12738853.pdf?src-supplier=Mouser
footprint RES0603 (Chip Resistor, 2-Leads, Body 1.60x0.80mm, IPC Medium Density)
pins: 1, 2

## Resistor 4.7K
designator R?, comment 4K7
Res Thin Film 0805 4.7K Ohm 0.1% 0.125W(1/8W) ±50ppm/C Epoxy Pad SMD T/R; Manufacturer: Yageo; Manufacturer Part Number: RT0805BRE074K7L; Value: 4.7kR; Max Power Dissipation: 125mW; Temperature Coefficient: 50ppm/°C; Voltage Rating (DC): 150V; Supplier 1: Mouser; Supplier Part Number 1: 603-RT0805BRE074K7L; Supplier: Mouser; Supplier Part Number: 603-RT0805BRE074K7L; RoHS: Yes; Category: Chip SMD Resistors; Stock: 4540; Case/Package: 0805; Contact Plating: Tin,Matte; Min Operating Temperature: -55°C; Max Operating Temperature: 125°C; Tolerance: 0.1%; Packaging: Tape and Reel; Package Quantity: 5000; Number of Terminations: 2; Series: RT; Voltage Rating: 150V; Length: 0.079inch; Width: 0.049inch; Height: 0.024inch; Lead Free: Lead Free; RoHS Compliant: Yes; ComponentLink1URL: https://datasheet.ciiva.com/2591/pyu-rt-1-to-0-05-rohs-l-5-2591828.pdf?src-supplier=Digikey; ComponentLink1Description: https://datasheet.ciiva.com/2591/pyu-rt-1-to-0-05-rohs-l-5-2591828.pdf?src-supplier=Digikey; ComponentLink2URL: https://datasheet.ciiva.com/8892/pyu-rt-1-to-0-05-rohs-l-4-8892981.pdf?src-supplier=Avnet; ComponentLink2Description: https://datasheet.ciiva.com/8892/pyu-rt-1-to-0-05-rohs-l-4-8892981.pdf?src-supplier=Avnet
footprint RES0805 (Chip Resistor, 2-Leads, Body 2.00x1.25mm, IPC Medium Density)
pins: 1, 2

## Resistor 4.87K
designator R?, comment 4.87K
Res Thin Film 0603 4.87K Ohm 0.1% 0.1W(1/10W) ±25ppm/C Pad SMD Automotive T/R ERA-3AEB4871V; Manufacturer: Panasonic; Value: 4.87kR; Temperature Coefficient: 25ppm/°C; Power Rating: 100mW; Voltage Rating: 75V; Supplier: Mouser; Supplier Part Number: 667-ERA-3AEB4871V; Manufacturer Part Number: ERA-3AEB4871V; RoHS: Yes; Category: Chip SMD Resistors; Stock: 26047; Pricing: 1=0.1, 10=0.054, 50=0.054, 100=0.051, 1000=0.043, 10000=0.035 (USD); Mounting Technology: Surface Mount; Case/Package: 0603; Pins: 2; Case Code (Metric): 1608; Case Code (Imperial): 0603; Min Operating Temperature: -55°C; Max Operating Temperature: 155°C; Tolerance: 0.1%; Resistor Type: Thin Film; Packaging: Tape and Reel; Series: ERA; Resistance Tolerance: 0.1%; Technology: METAL FILM; Voltage Rating (DC): 75V; Length: 1.6mm; Width: 1.6mm; Height: 0.45mm; Depth: 0.8mm; Reach SVHC Compliant: No; Lead Free: 5697LeadFree; ComponentLink1URL: https://datasheet.ciiva.com/11809/0900766b80eb1d8c-11809890.pdf?src-supplier=Rs; ComponentLink1Description: https://datasheet.ciiva.com/11809/0900766b80eb1d8c-11809890.pdf?src-supplier=Rs; ComponentLink2URL: https://datasheet.ciiva.com/9195/aoa0000ce26-9195608.pdf?src-supplier=Avnet; ComponentLink2Description: https://datasheet.ciiva.com/9195/aoa0000ce26-9195608.pdf?src-supplier=Avnet; ComponentLink3URL: https://datasheet.ciiva.com/7763/485442-7763494.pdf?src-supplier=Element14; ComponentLink3Description: https://datasheet.ciiva.com/7763/485442-7763494.pdf?src-supplier=Element14; ComponentLink4URL: https://datasheet.ciiva.com/7763/485442-7763495.pdf?src-supplier=Element14; ComponentLink4Description: https://datasheet.ciiva.com/7763/485442-7763495.pdf?src-supplier=Element14; ComponentLink5URL: https://datasheet.ciiva.com/5971/485442-5971802.pdf?src-supplier=Farnell; ComponentLink5Description: https://datasheet.ciiva.com/5971/485442-5971802.pdf?src-supplier=Farnell; ComponentLink6URL: https://datasheet.ciiva.com/17213/aoa0000ce26-17213079.pdf?; ComponentLink6Description: https://datasheet.ciiva.com/17213/aoa0000ce26-17213079.pdf?; ComponentLink7URL: https://datasheet.ciiva.com/41450/001180847-da-01-en-widerstand-era-0603-4k87-0-1-5000st-41450166.pdf?src-supplier=Conrad; ComponentLink7Description: https://datasheet.ciiva.com/41450/001180847-da-01-en-widerstand-era-0603-4k87-0-1-5000st-41450166.pdf?src-supplier=Conrad; Supplier 1: Mouser; Supplier Part Number 1: 667-ERA-3AEB4871V
footprint RES0603 (Chip Resistor, 2-Leads, Body 1.60x0.80mm, IPC Medium Density)
pins: 1, 2

## Resistor 11K
designator R?, comment R11K
Res Thin Film 0603 11K Ohm 0.1% 1/10W ±25ppm/°C Molded SMD SMD Paper T/R; Manufacturer: Yageo; Manufacturer Part Number: RT0603BRD0711KL; Voltage Rating (DC): 75V; Supplier: Mouser; Supplier Part Number: 603-RT0603BRD0711KL; RoHS: Yes; Category: Chip SMD Resistors; Stock: 16839; Pricing: 1=0.1, 10=0.064, 50=0.057, 100=0.052, 1000=0.045, 10000=0.036 (USD); Lead Free: 5697LeadFree; ComponentLink1URL: https://datasheet.ciiva.com/2585/pyu-rt-1-to-0-05-rohs-l-4-2585635.pdf?src-supplier=Digikey; ComponentLink1Description: https://datasheet.ciiva.com/2585/pyu-rt-1-to-0-05-rohs-l-4-2585635.pdf?src-supplier=Digikey; ComponentLink2URL: https://datasheet.ciiva.com/46635/pyu-rt-1-to-0-05-rohs-l-5-46635131.pdf?src-supplier=Digikey; ComponentLink2Description: https://datasheet.ciiva.com/46635/pyu-rt-1-to-0-05-rohs-l-5-46635131.pdf?src-supplier=Digikey; ComponentLink3URL: https://datasheet.ciiva.com/12810/pyu-rt-1-to-0-05-rohs-l-4-12810646.pdf?src-supplier=Mouser; ComponentLink3Description: https://datasheet.ciiva.com/12810/pyu-rt-1-to-0-05-rohs-l-4-12810646.pdf?src-supplier=Mouser
footprint RES0603 (Chip Resistor, 2-Leads, Body 1.60x0.80mm, IPC Medium Density)
pins: 1, 2

## Resistor 15M
designator R?, comment 15M
footprint RES0603 (Chip Resistor, 2-Leads, Body 1.60x0.80mm, IPC Medium Density)
pins: 1, 2

## Resistor 25.5K
designator R?, comment 25.5K
Res Thin Film 0603 25.5K Ohm 0.1% 0.1W(1/10W) ±25ppm/C Pad SMD T/RRT0603BRD0725K5L; Manufacturer: Yageo; Voltage Rating (DC): 50V; Supplier: Mouser; Supplier Part Number: 603-RT0603BRD0725K5L; Manufacturer Part Number: RT0603BRD0725K5L; RoHS: Yes; Category: Chip SMD Resistors; Stock: 4532; Pricing: 1=0.14, 10=0.106, 50=0.085, 100=0.076, 1000=0.051, 10000=0.032 (USD); Lead Free: 5697LeadFree; ComponentLink1URL: http://www.mouser.com/ds/2/447/yageodocoutput-1125656.pdf?src-supplier=Mouser; ComponentLink1Description: http://www.mouser.com/ds/2/447/yageodocoutput-1125656.pdf?src-supplier=Mouser; ComponentLink2URL: https://datasheet.octopart.com/RT0603BRD0725K5L-Yageo-datasheet-166250672.pdf?src-supplier=Future+Electronics; ComponentLink2Description: https://datasheet.octopart.com/RT0603BRD0725K5L-Yageo-datasheet-166250672.pdf?src-supplier=Future+Electronics; ComponentLink3URL: http://www.yageo.com/documents/recent/PYu-RT_1-to-0.01_RoHS_L_9.pdf?src-supplier=Digikey; ComponentLink3Description: http://www.yageo.com/documents/recent/PYu-RT_1-to-0.01_RoHS_L_9.pdf?src-supplier=Digikey; ComponentLink4URL: https://www.yageo.com/upload/media/product/productsearch/datasheet/rchip/PYu-RT_1-to-0.01_RoHS_L_12.pdf?src-supplier=Digikey; ComponentLink4Description: https://www.yageo.com/upload/media/product/productsearch/datasheet/rchip/PYu-RT_1-to-0.01_RoHS_L_12.pdf?src-supplier=Digikey; ComponentLink5URL: http://www.yageo.com/documents/recent/PYu-RT_1-to-0.05_RoHS_L_6.pdf?src-supplier=Avnet; ComponentLink5Description: http://www.yageo.com/documents/recent/PYu-RT_1-to-0.05_RoHS_L_6.pdf?src-supplier=Avnet; ComponentLink6URL: http://www.yageo.com/documents/recent/PYu-RT_1-to-0.05_RoHS_L_(4).pdf?src-supplier=Future+Electronics; ComponentLink6Description: http://www.yageo.com/documents/recent/PYu-RT_1-to-0.05_RoHS_L_(4).pdf?src-supplier=Future+Electronics; Supplier 1: Farnell; Supplier Part Number 1: 4149462
pins: 1, 2

## Resistor 26.7K
designator R?, comment 26.7K
Res Thin Film 0603 26.7K Ohm 1% 1/10W ±50ppm/°C Molded SMD SMD Paper T/R; Manufacturer: Yageo; Manufacturer Part Number: RT0603DRD0728K4L; Value: 26.7kR; Power Rating: 100mW; Voltage Rating: 75V; Voltage Rating (DC): 50V; Supplier: Mouser; Supplier Part Number: 603-RT0603DRD0728K4L; RoHS: Yes; Category: Chip SMD Resistors; Stock: 13880; Pricing: 1=0.11, 10=0.051, 50=0.051, 100=0.047, 1000=0.032, 10000=0.021 (USD); ComponentLink1URL: https://www.yageo.com/upload/media/product/productsearch/datasheet/rchip/PYu-RT_1-to-0.01_RoHS_L_12.pdf?src-supplier=Digikey; ComponentLink1Description: https://www.yageo.com/upload/media/product/productsearch/datasheet/rchip/PYu-RT_1-to-0.01_RoHS_L_12.pdf?src-supplier=Digikey; Case/Package: 0603; Case Code (Metric): 1608; Case Code (Imperial): 0603; Weight: 7.1E-05oz; Contact Plating: Tin,Matte; Min Operating Temperature: -55°C; Max Operating Temperature: 125°C; Packaging: Tape and Reel; Tolerance: 1%; Number of Terminations: 2; Termination: SMD/SMT; Max Power Dissipation: 100mW; Temperature Coefficient: 50ppm/°C; Series: RT; Length: 1.6mm; Width: 0.8mm; Height: 0.45mm; Lead Free: Lead Free; RoHS Compliant: Yes; ComponentLink2URL: https://datasheet.ciiva.com/2559/pyu-rt-1-to-0-05-rohs-l-5-2559688.pdf?src-supplier=Digikey; ComponentLink2Description: https://datasheet.ciiva.com/2559/pyu-rt-1-to-0-05-rohs-l-5-2559688.pdf?src-supplier=Digikey; ComponentLink3URL: https://datasheet.ciiva.com/12810/pyu-rt-1-to-0-05-rohs-l-4-12810364.pdf?src-supplier=Mouser; ComponentLink3Description: https://datasheet.ciiva.com/12810/pyu-rt-1-to-0-05-rohs-l-4-12810364.pdf?src-supplier=Mouser; ComponentLink4URL: https://datasheet.ciiva.com/8889/pyu-rt-1-to-0-05-rohs-l-4-8889950.pdf?src-supplier=Avnet; ComponentLink4Description: https://datasheet.ciiva.com/8889/pyu-rt-1-to-0-05-rohs-l-4-8889950.pdf?src-supplier=Avnet; Supplier 1: Mouser; Supplier Part Number 1: 603-RT0603FRE0726K7L
footprint RES0603 (Chip Resistor, 2-Leads, Body 1.60x0.80mm, IPC Medium Density)
pins: 1, 2

## Resistor 58K
designator R?, comment 58K
pins: 1, 2

## Resistor 64.9K RG2012P-6492-B-T5
designator R?, comment 64.9K
RG Series 0805 0.125 W 64.9K ohm ± 0.1% ± 25 ppm/°C SMT Metal Film Resistor; Manufacturer: Susumu; Manufacturer Part Number: RG2012P-6492-B-T5; Supplier: Mouser; Supplier Part Number: 754-RG2012P-6492-BT5; RoHS: Yes; Category: Chip SMD Resistors; Stock: 5646; Pricing: 1=0.12, 10=0.088, 50=0.088, 100=0.083, 1000=0.069, 10000=0.051 (USD); ComponentLink1URL: https://datasheet.ciiva.com/17090/rg-rm-rgh-datasheet-17090870.pdf?src-supplier=Future+Electronics; ComponentLink1Description: https://datasheet.ciiva.com/17090/rg-rm-rgh-datasheet-17090870.pdf?src-supplier=Future+Electronics; Supplier 1: Mouser; Supplier Part Number 1: 754-RG2012P-6492-BT5
footprint RES0805 (Chip Resistor, 2-Leads, Body 2.00x1.25mm, IPC Medium Density)
pins: 1, 2

## Resistor 100K
designator R?, comment 100K
Res Thick Film 0805 100K Ohm 5% 0.125W(1/8W) +/-200ppm/ßC SMD Automotive T/R; Manufacturer: Panasonic; Manufacturer Part Number: ERJ-6GEYJ104V; Value: 100kR; Temperature Coefficient: 200ppm/°C; Power Rating: 125mW; Voltage Rating: 150V; Supplier 1: Mouser; Supplier Part Number 1: 279-RN73CA-100K; Supplier: Mouser; Supplier Part Number: 667-ERJ-6GEYJ104V; RoHS: Yes; Category: Chip SMD Resistors; Stock: 35881; Pricing: 1=0.12, 10=0.027, 50=0.027, 100=0.018, 1000=0.015, 10000=0.007 (USD); Mounting Technology: Surface Mount; Case/Package: 0805; Pins: 2NUMBER; Contact Plating: Tin; Case Code (Metric): 2012; Case Code (Imperial): 0805; Weight: 0.000194oz; Min Operating Temperature: -55°C; Max Operating Temperature: 155°C; Tolerance: 5%; Resistor Type: Thick Film; Packaging: Tape and Reel; Package Quantity: 5000; Number of Terminations: 2; Termination: SMD/SMT; Max Power Dissipation: 125mW; Features: Automotive AEC-Q200; Series: ERJ; Technology: THICK FILM; Construction: Rectangular; Resistance Tolerance: 5%; Voltage Rating (DC): 150V; Length: 2mm; Width: 1.25mm; Height: 0.6mm; Depth: 1.25mm; Radiation Hardening: No; Reach SVHC Compliant: No; Military Standard: Not; RoHS Compliant: Yes; Lead Free: 5697LeadFree; ComponentLink1URL: https://datasheet.ciiva.com/34303/2007290-34303759.pdf?src-supplier=Jameco; ComponentLink1Description: https://datasheet.ciiva.com/34303/2007290-34303759.pdf?src-supplier=Jameco; ComponentLink2URL: https://datasheet.ciiva.com/11821/0900766b80f806dd-11821506.pdf?src-supplier=Rs; ComponentLink2Description: https://datasheet.ciiva.com/11821/0900766b80f806dd-11821506.pdf?src-supplier=Rs; ComponentLink3URL: https://datasheet.ciiva.com/43460/1500035-43460136.pdf?src-supplier=Farnell; ComponentLink3Description: https://datasheet.ciiva.com/43460/1500035-43460136.pdf?src-supplier=Farnell; ComponentLink4URL: https://datasheet.ciiva.com/22758/1500035-22758234.pdf?src-supplier=Farnell; ComponentLink4Description: https://datasheet.ciiva.com/22758/1500035-22758234.pdf?src-supplier=Farnell; ComponentLink5URL: https://datasheet.ciiva.com/46380/1500035-46380511.pdf?src-supplier=Element14; ComponentLink5Description: https://datasheet.ciiva.com/46380/1500035-46380511.pdf?src-supplier=Element14; ComponentLink6URL: https://datasheet.ciiva.com/16771/70255313-16771462.pdf?src-supplier=Allied+Electronics; ComponentLink6Description: https://datasheet.ciiva.com/16771/70255313-16771462.pdf?src-supplier=Allied+Electronics; ComponentLink7URL: https://datasheet.ciiva.com/9117/aoa0000ce1-9117374.pdf?src-supplier=Avnet; ComponentLink7Description: https://datasheet.ciiva.com/9117/aoa0000ce1-9117374.pdf?src-supplier=Avnet; ComponentLink8URL: https://datasheet.ciiva.com/30137/4aoa0000ce1-30137389.pdf?src-supplier=Onlinecomponents.com; ComponentLink8Description: https://datasheet.ciiva.com/30137/4aoa0000ce1-30137389.pdf?src-supplier=Onlinecomponents.com
footprint RES0805 (Chip Resistor, 2-Leads, Body 2.00x1.25mm, IPC Medium Density)
pins: 1, 2

## Resistor 100R
designator R?, comment 100R
High Precision-High Stability Chip Resistor Thin Film 0805 100Ohm 0.5% Paper T/R; Manufacturer: Yageo; Manufacturer Part Number: RT0805DRE07100RL; Max Power Dissipation: 125mW; Temperature Coefficient: 50ppm/°C; Voltage Rating (DC): 150V; Supplier: Mouser; Supplier Part Number: 603-RT0805DRE07100RL; RoHS: Yes; Category: Chip SMD Resistors; Stock: 4479; Case/Package: 0805; Case Code (Metric): 2012; Case Code (Imperial): 0805; Min Operating Temperature: -55°C; Max Operating Temperature: 155°C; Value: 100R; Packaging: Cut Tape; Number of Terminations: 2; Tolerance: 0.5%; Series: RT; Lead Free: Lead Free; RoHS Compliant: Yes; ComponentLink1URL: http://www.yageo.com/documents/recent/PYu-RT_1-to-0.01_RoHS_L_9.pdf?src-supplier=Digikey; ComponentLink1Description: http://www.yageo.com/documents/recent/PYu-RT_1-to-0.01_RoHS_L_9.pdf?src-supplier=Digikey; Supplier 1: Mouser; Supplier Part Number 1: 603-RT0805DRE07100RL
footprint RES0805 (Chip Resistor, 2-Leads, Body 2.00x1.25mm, IPC Medium Density)
pins: 1, 2

## Resistor 499
designator R?, comment R499
pins: 1, 2